# EAGLE library part RTC (library ioshub)
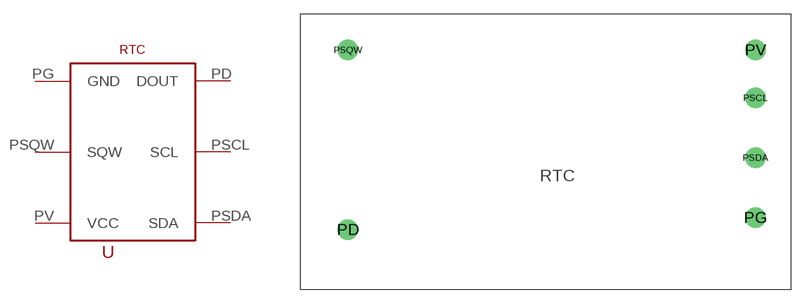
[diagram p1: symbol with the pads of RTC; footprint RTC]

Designator prefix -

## RTC1307  [RTC]
PD  DOUT
PG  GND
PSCL  SCL
PSDA  SDA
PSQW  SQW
PV  VCC

## Footprint RTC (pad centres in mm)
drill 0.6 pad 2.184: PD 5.08,6.35; PG 48.26,7.62; PSCL 48.26,20.32; PSDA 48.26,13.97; PSQW 5.08,25.4; PV 48.26,25.4